# Altium footprint library IC.PcbLib: 99 footprints (part 3 of 7)
Each footprint in its own frame and in the unit in brackets; x right, y up, seen from the top. Pads: shape width x height; smd on the part's side, far side on the other; paste and mask are expansions set on the pad; w line width, h text height; cw(c..) or ccw(c..) is an arc to the next point about the centre after c.
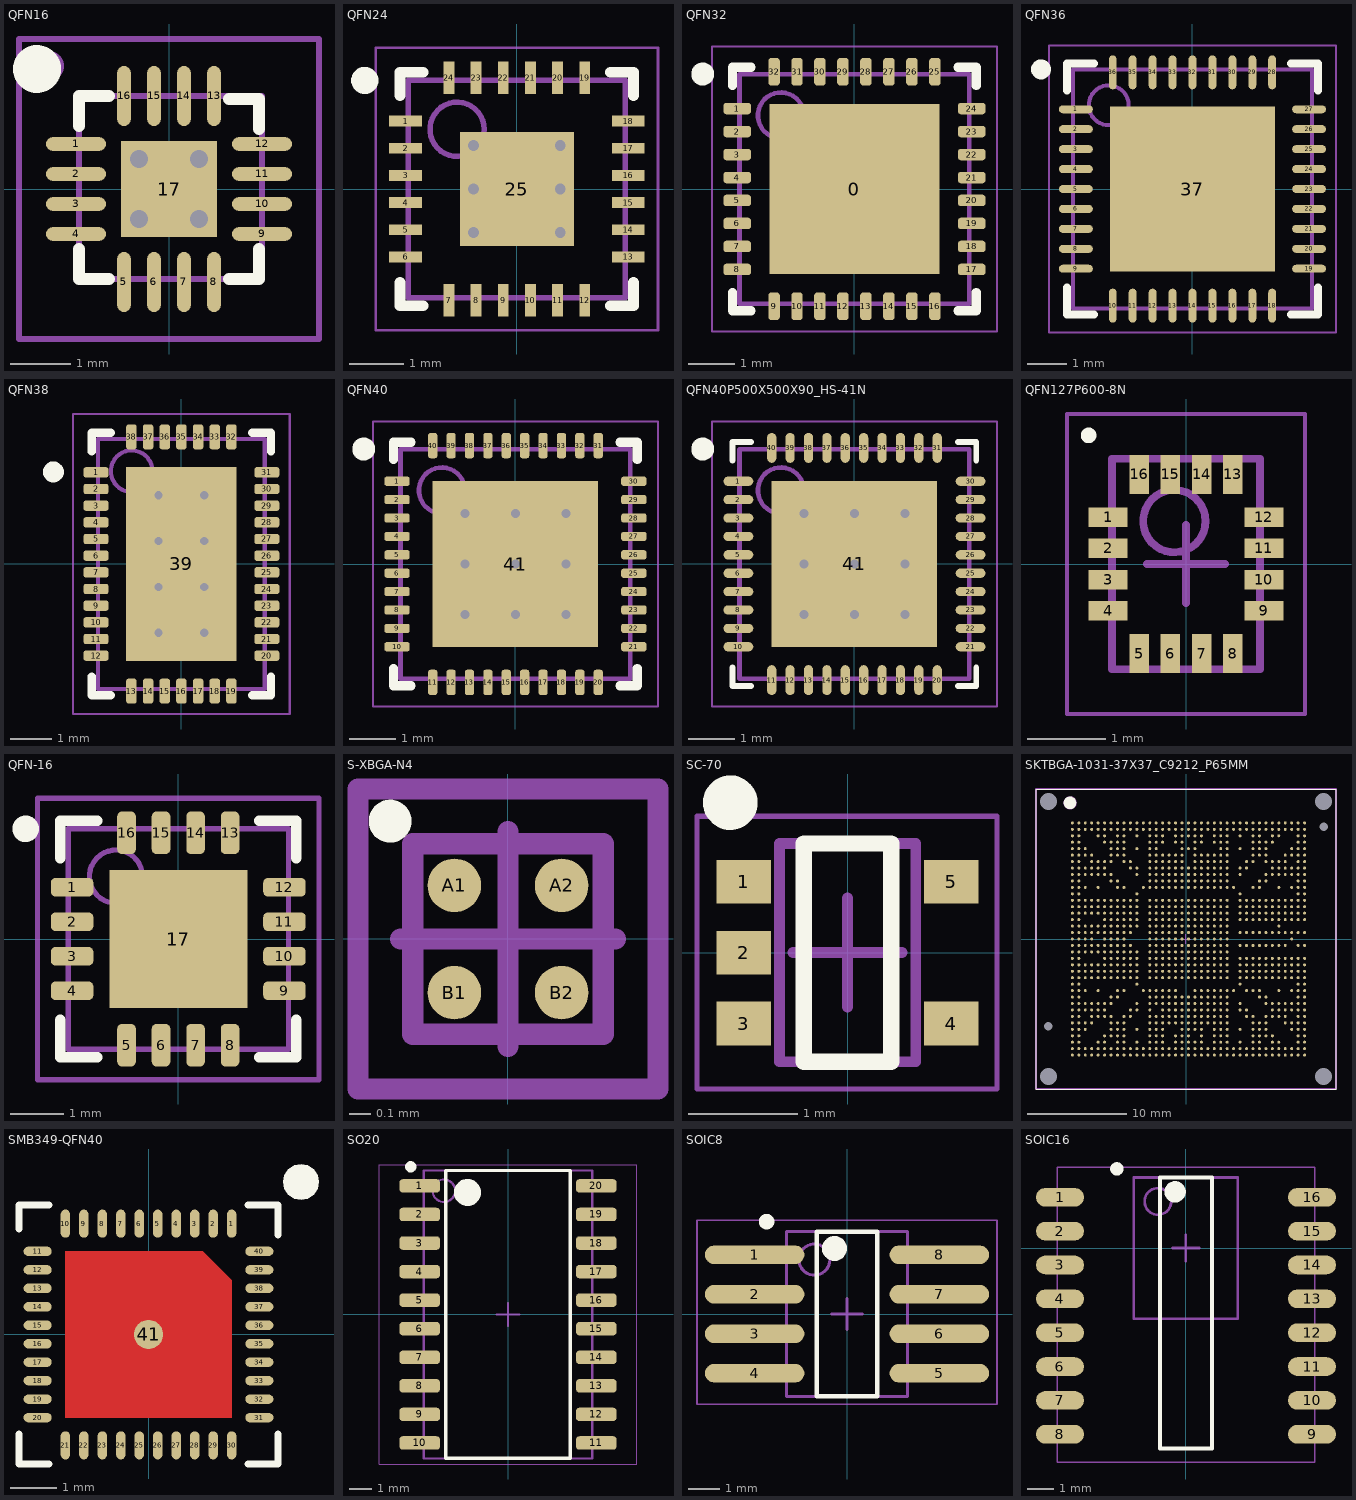
[diagram p2: the footprints below, top view; thin cyan lines are the x and y axes]

## QFN16 [mm] "QFN16"
height 1.2
pads (17):
  oval 1x0.23 smd: 1(-1.55,0.75) 2(-1.55,0.25) 3(-1.55,-0.25) 4(-1.55,-0.75) 9(1.55,-0.75) 10(1.55,-0.25) 11(1.55,0.25) 12(1.55,0.75)
  oval 0.23x1 smd: 5(-0.75,-1.55) 6(-0.25,-1.55) 7(0.25,-1.55) 8(0.75,-1.55) 13(0.75,1.55) 14(0.25,1.55) 15(-0.25,1.55) 16(-0.75,1.55)
  rect 1.6x1.6 smd paste-50 mask-50: 17(0,0)
via -0.5,-0.5 diameter 0.6 hole 0.3
via 0.5,-0.5 diameter 0.6 hole 0.3
via 0.5,0.5 diameter 0.6 hole 0.3
via -0.5,0.5 diameter 0.6 hole 0.3
Top Overlay:
  circle w0.4: c-2.2,2 r0.2
  lines w0.2: -1.5,-1 -1.5,-1.5 -1,-1.5 ; -1.5,1.05 -1.5,1.55 -1,1.55 ; 1,-1.5 1.5,-1.5 1.5,-1 ; 1,1.5 1.5,1.5 1.5,1
Top Paste:
  region: 0.8,-0.3 0.8,0.3 -0.8,0.3 -0.8,-0.3
  rectangle: -0.3,-0.8 0.3,0.8
Top Solder:
  region: 0.8,-0.3 0.8,0.3 -0.8,0.3 -0.8,-0.3
  rectangle: -0.3,-0.8 0.3,0.8
Mechanical 13:
  circle w0.1: c-2,2.05 r0.2
  lines w0.1: -1.5,-1.5 1.55,-1.5 1.55,1.55 -1.5,1.55 -1.5,-1.5
  text ".Designator" at -1.676,2.5 h0.5
Mechanical 15:
  lines w0.1: -0.5,0 0.5,0 ; 0,-0.5 0,0.5 ; -2.5,-2.5 2.5,-2.5 2.5,2.5 -2.5,2.5 -2.5,-2.5
3D body: height -0.42, standoff -1.32, extent -1.521,-1.525 1.521,1.517

## QFN24 [mm]
height 1
pads (25):
  rect 0.6x0.2 smd: 1(-2.05,1.25) 2(-2.05,0.75) 3(-2.05,0.25) 4(-2.05,-0.25) 5(-2.05,-0.75) 6(-2.05,-1.25) 13(2.05,-1.25) 14(2.05,-0.75) 15(2.05,-0.25) 16(2.05,0.25) 17(2.05,0.75) 18(2.05,1.25)
  rect 0.2x0.6 smd: 7(-1.25,-2.05) 8(-0.75,-2.05) 9(-0.25,-2.05) 10(0.25,-2.05) 11(0.75,-2.05) 12(1.25,-2.05) 19(1.25,2.05) 20(0.75,2.05) 21(0.25,2.05) 22(-0.25,2.05) 23(-0.75,2.05) 24(-1.25,2.05)
  rect 2.1x2.1 smd paste-100 mask-100: 25(0,0)
via 0.8,0 diameter 0.4 hole 0.2
via 0.8,-0.8 diameter 0.4 hole 0.2
via 0.8,0.8 diameter 0.4 hole 0.2
via -0.8,0.8 diameter 0.4 hole 0.2
via -0.8,-0.8 diameter 0.4 hole 0.2
via -0.8,0 diameter 0.4 hole 0.2
Top Overlay:
  circle w0.25: c-2.8,2 r0.125
  lines w0.2: -2.15,-1.725 -2.15,-2.15 -1.725,-2.15 ; -2.15,1.725 -2.15,2.15 -1.725,2.15 ; 1.725,-2.15 2.15,-2.15 2.15,-1.725 ; 1.725,2.15 2.15,2.15 2.15,1.725
Top Paste:
  rectangle: -0.61,-1.041 0.61,1.041
Top Solder:
  rectangle: -0.61,-1.041 0.61,1.041
Mechanical 13:
  circle w0.1: c-1.1,1.1 r0.5
  lines w0.1: -2,-2 2,-2 2,2 -2,2 -2,-2
  text ".Designator" at -1.914,2.684 h0.5
Mechanical 15:
  lines w0.05: -2.6,-2.6 2.6,-2.6 2.6,2.6 -2.6,2.6 -2.6,-2.6
  lines w0.1: -0.5,0 0.5,0 ; 0,-0.5 0,0.5
3D body: height 1, standoff 0.02, extent -2,-2 2,2

## QFN32 [mm]
height 0.55
pads (33):
  rect 3.7x3.7 smd: 0(0,0)
  rrect50% 0.6x0.25 smd mask+0.085: 1(-2.55,1.75) 2(-2.55,1.25) 3(-2.55,0.75) 4(-2.55,0.25) 5(-2.55,-0.25) 6(-2.55,-0.75) 7(-2.55,-1.25) 8(-2.55,-1.75) 17(2.55,-1.75) 18(2.55,-1.25) 19(2.55,-0.75) 20(2.55,-0.25) 21(2.55,0.25) 22(2.55,0.75) 23(2.55,1.25) 24(2.55,1.75)
  rrect50% 0.25x0.6 smd mask+0.085: 9(-1.75,-2.55) 10(-1.25,-2.55) 11(-0.75,-2.55) 12(-0.25,-2.55) 13(0.25,-2.55) 14(0.75,-2.55) 15(1.25,-2.55) 16(1.75,-2.55) 25(1.75,2.55) 26(1.25,2.55) 27(0.75,2.55) 28(0.25,2.55) 29(-0.25,2.55) 30(-0.75,2.55) 31(-1.25,2.55) 32(-1.75,2.55)
Top Overlay:
  circle w0.25: c-3.3,2.5 r0.125
  lines w0.2: -2.65,-2.25 -2.65,-2.65 -2.25,-2.65 ; -2.65,2.25 -2.65,2.65 -2.25,2.65 ; 2.25,-2.65 2.65,-2.65 2.65,-2.25 ; 2.25,2.65 2.65,2.65 2.65,2.25
Mechanical 13:
  circle w0.1: c-1.6,1.6 r0.5
  lines w0.1: -2.5,-2.5 2.5,-2.5 2.5,2.5 -2.5,2.5 -2.5,-2.5
Mechanical 15:
  lines w0.05: -3.1,-3.1 3.1,-3.1 3.1,3.1 -3.1,3.1 -3.1,-3.1
  lines w0.1: -0.5,0 0.5,0 ; 0,-0.5 0,0.5
3D body: height 0.55, standoff 0.02, extent -2.5,-2.5 2.5,2.5

## QFN36 [mm] "QFN, 36-Leads, Body 6,00x6,00mm, Pitch 0,50mm, Thermal Pad 4,14x4,14mm, IPC Medium Density"
height 0.9
pads (37):
  oval 0.85x0.2 smd: 1(-2.925,2) 2(-2.925,1.5) 3(-2.925,1) 4(-2.925,0.5) 5(-2.925,0) 6(-2.925,-0.5) 7(-2.925,-1) 8(-2.925,-1.5) 9(-2.925,-2) 19(2.925,-2) 20(2.925,-1.5) 21(2.925,-1) 22(2.925,-0.5) 23(2.925,0) 24(2.925,0.5) 25(2.925,1) 26(2.925,1.5) 27(2.925,2)
  oval 0.2x0.85 smd: 10(-2,-2.925) 11(-1.5,-2.925) 12(-1,-2.925) 13(-0.5,-2.925) 14(0,-2.925) 15(0.5,-2.925) 16(1,-2.925) 17(1.5,-2.925) 18(2,-2.925) 28(2,2.925) 29(1.5,2.925) 30(1,2.925) 31(0.5,2.925) 32(0,2.925) 33(-0.5,2.925) 34(-1,2.925) 35(-1.5,2.925) 36(-2,2.925)
  rect 4.14x4.14 smd: 37(0,0)
Top Overlay:
  circle w0.25: c-3.8,3 r0.125
  lines w0.2: -3.15,-2.475 -3.15,-3.15 -2.475,-3.15 ; -3.15,2.475 -3.15,3.15 -2.475,3.15 ; 2.475,-3.15 3.15,-3.15 3.15,-2.475 ; 2.475,3.15 3.15,3.15 3.15,2.475
Mechanical 13:
  circle w0.1: c-2.1,2.1 r0.5
  lines w0.1: -3,-3 -3,3 3,3 3,-3 -3,-3
  text ".Designator" at -2.219,3.751 h0.5
Mechanical 15:
  lines w0.05: -3.6,-3.6 -3.6,3.6 3.6,3.6 3.6,-3.6 -3.6,-3.6
  lines w0.1: -0.5,0 0.5,0 ; 0,-0.5 0,0.5
3D body: height 0.9, standoff 0.01, extent -3,-3 3,3

## QFN38 [mm]
height 0.75
pads (39):
  rrect50% 0.6x0.25 smd mask+0.02: 1(-2.05,2.2) 2(-2.05,1.8) 3(-2.05,1.4) 4(-2.05,1) 5(-2.05,0.6) 6(-2.05,0.2) 7(-2.05,-0.2) 8(-2.05,-0.6) 9(-2.05,-1) 10(-2.05,-1.4) 11(-2.05,-1.8) 12(-2.05,-2.2) 20(2.05,-2.2) 21(2.05,-1.8) 22(2.05,-1.4) 23(2.05,-1) 24(2.05,-0.6) 25(2.05,-0.2) 26(2.05,0.2) 27(2.05,0.6) 28(2.05,1) 29(2.05,1.4) 30(2.05,1.8) 31(2.05,2.2)
  rrect50% 0.25x0.6 smd mask+0.02: 13(-1.2,-3.05) 14(-0.8,-3.05) 15(-0.4,-3.05) 16(0,-3.05) 17(0.4,-3.05) 18(0.8,-3.05) 19(1.2,-3.05) 32(1.2,3.05) 33(0.8,3.05) 34(0.4,3.05) 35(0,3.05) 36(-0.4,3.05) 37(-0.8,3.05) 38(-1.2,3.05)
  rect 2.65x4.65 smd paste-10 mask-10: 39(0,0)
via 0.55,1.65 diameter 0.4 hole 0.2
via -0.55,1.65 diameter 0.4 hole 0.2
via -0.55,0.55 diameter 0.4 hole 0.2
via 0.55,0.55 diameter 0.4 hole 0.2
via 0.55,-0.55 diameter 0.4 hole 0.2
via 0.55,-1.65 diameter 0.4 hole 0.2
via -0.55,-0.55 diameter 0.4 hole 0.2
via -0.55,-1.65 diameter 0.4 hole 0.2
Top Overlay:
  circle w0.25: c-3.071,2.21 r0.125
  lines w0.2: -2.15,-2.7 -2.15,-3.15 -1.7,-3.15 ; -2.15,2.7 -2.15,3.15 -1.7,3.15 ; 1.7,-3.15 2.15,-3.15 2.15,-2.7 ; 1.7,3.15 2.15,3.15 2.15,2.7
Top Paste:
  rectangle: 0.8,-2.3 1.3,2.3
  rectangle: -0.3,-2.3 0.3,2.3
  rectangle: -1.3,-2.3 -0.8,2.3
Top Solder:
  rectangle: -1.3,-2.3 -0.8,2.3
  rectangle: -0.3,-2.3 0.3,2.3
  rectangle: 0.8,-2.3 1.3,2.3
Mechanical 13:
  circle w0.1: c-1.194,2.227 r0.5
  lines w0.1: -2,-3 -2,3 2,3 2,-3 -2,-3
Mechanical 15:
  lines w0.05: -2.6,-3.6 -2.6,3.6 2.6,3.6 2.6,-3.6 -2.6,-3.6
  lines w0.1: -0.5,0 0.5,0 ; 0,-0.5 0,0.5
3D body: height 0.75, standoff 0.05, extent -2,-3 2,3

## QFN40 [mm]
height 0.85
pads (41):
  rrect50% 0.55x0.2 smd mask+0.06: 1(-2.575,1.8) 2(-2.575,1.4) 3(-2.575,1) 4(-2.575,0.6) 5(-2.575,0.2) 6(-2.575,-0.2) 7(-2.575,-0.6) 8(-2.575,-1) 9(-2.575,-1.4) 10(-2.575,-1.8) 21(2.575,-1.8) 22(2.575,-1.4) 23(2.575,-1) 24(2.575,-0.6) 25(2.575,-0.2) 26(2.575,0.2) 27(2.575,0.6) 28(2.575,1) 29(2.575,1.4) 30(2.575,1.8)
  rrect50% 0.2x0.55 smd mask+0.06: 11(-1.8,-2.575) 12(-1.4,-2.575) 13(-1,-2.575) 14(-0.6,-2.575) 15(-0.2,-2.575) 16(0.2,-2.575) 17(0.6,-2.575) 18(1,-2.575) 19(1.4,-2.575) 20(1.8,-2.575) 31(1.8,2.575) 32(1.4,2.575) 33(1,2.575) 34(0.6,2.575) 35(0.2,2.575) 36(-0.2,2.575) 37(-0.6,2.575) 38(-1,2.575) 39(-1.4,2.575) 40(-1.8,2.575)
  rect 3.6x3.6 smd paste-10 mask-10: 41(0,0)
via 1.1,1.1 diameter 0.4 hole 0.2
via 0,1.1 diameter 0.4 hole 0.2
via -1.1,1.1 diameter 0.4 hole 0.2
via -1.1,0 diameter 0.4 hole 0.2
via 0,0 diameter 0.4 hole 0.2
via 1.1,-1.1 diameter 0.4 hole 0.2
via 0,-1.1 diameter 0.4 hole 0.2
via -1.1,-1.1 diameter 0.4 hole 0.2
via 1.1,0 diameter 0.4 hole 0.2
Top Overlay:
  circle w0.25: c-3.3,2.5 r0.125
  lines w0.2: -2.65,-2.275 -2.65,-2.65 -2.275,-2.65 ; -2.65,2.275 -2.65,2.65 -2.275,2.65 ; 2.275,-2.65 2.65,-2.65 2.65,-2.275 ; 2.275,2.65 2.65,2.65 2.65,2.275
Top Solder:
  rectangle: 1.34,-1.8 1.8,1.8
  rectangle: 0.31,-1.8 0.77,1.8
  rectangle: -0.78,-1.8 -0.32,1.8
  rectangle: -1.8,-1.8 -1.34,1.8
Mechanical 13:
  circle w0.1: c-1.6,1.6 r0.5
  lines w0.1: -2.5,-2.5 2.5,-2.5 2.5,2.5 -2.5,2.5 -2.5,-2.5
Mechanical 15:
  lines w0.05: -3.1,-3.1 3.1,-3.1 3.1,3.1 -3.1,3.1 -3.1,-3.1
  lines w0.1: -0.5,0 0.5,0 ; 0,-0.5 0,0.5
3D body: height 0.85, standoff 0.02, extent -2.5,-2.5 2.5,2.5

## QFN40P500X500X90_HS-41N [mm] "QFN, 40-Leads, Body 5,00x5,00mm, Pitch 0,40mm, Thermal Pad 3,60x3,60mm, IPC Medium Density"
height 0.9
pads (41):
  oval 0.65x0.2 smd: 1(-2.525,1.8) 2(-2.525,1.4) 3(-2.525,1) 4(-2.525,0.6) 5(-2.525,0.2) 6(-2.525,-0.2) 7(-2.525,-0.6) 8(-2.525,-1) 9(-2.525,-1.4) 10(-2.525,-1.8) 21(2.525,-1.8) 22(2.525,-1.4) 23(2.525,-1) 24(2.525,-0.6) 25(2.525,-0.2) 26(2.525,0.2) 27(2.525,0.6) 28(2.525,1) 29(2.525,1.4) 30(2.525,1.8)
  oval 0.2x0.65 smd: 11(-1.8,-2.525) 12(-1.4,-2.525) 13(-1,-2.525) 14(-0.6,-2.525) 15(-0.2,-2.525) 16(0.2,-2.525) 17(0.6,-2.525) 18(1,-2.525) 19(1.4,-2.525) 20(1.8,-2.525) 31(1.8,2.525) 32(1.4,2.525) 33(1,2.525) 34(0.6,2.525) 35(0.2,2.525) 36(-0.2,2.525) 37(-0.6,2.525) 38(-1,2.525) 39(-1.4,2.525) 40(-1.8,2.525)
  rect 3.6x3.6 smd: 41(0,0)
via -1.1,1.1 diameter 0.5 hole 0.2
via 0,1.1 diameter 0.5 hole 0.2
via 1.1,1.1 diameter 0.5 hole 0.2
via -1.1,0 diameter 0.5 hole 0.2
via 0,0 diameter 0.5 hole 0.2
via 1.1,0 diameter 0.5 hole 0.2
via -1.1,-1.1 diameter 0.5 hole 0.2
via 0,-1.1 diameter 0.5 hole 0.2
via 1.1,-1.1 diameter 0.5 hole 0.2
Top Overlay:
  circle w0.25: c-3.3,2.5 r0.125
  lines w0.127: -2.65,-2.25 -2.65,-2.65 -2.25,-2.65 ; -2.65,2.25 -2.65,2.65 -2.25,2.65 ; 2.25,-2.65 2.65,-2.65 2.65,-2.25 ; 2.25,2.65 2.65,2.65 2.65,2.25
Mechanical 13:
  circle w0.1: c-1.6,1.6 r0.5
  lines w0.1: -2.5,-2.5 -2.5,2.5 2.5,2.5 2.5,-2.5 -2.5,-2.5
  text ".Designator" at -1.965,3.319 h0.5
Mechanical 15:
  lines w0.05: -3.1,-3.1 -3.1,3.1 3.1,3.1 3.1,-3.1 -3.1,-3.1
  lines w0.1: -0.5,0 0.5,0 ; 0,-0.5 0,0.5
3D body: height 0.9, standoff 0.05, extent -2.5,-2.5 2.5,2.5

## QFN127P600-8N [mm]
height 0.5
pads (16):
  rect 0.5x0.25 smd mask+0.05: 1(-1,0.6) 2(-1,0.2) 3(-1,-0.2) 4(-1,-0.6) 9(1,-0.6) 10(1,-0.2) 11(1,0.2) 12(1,0.6)
  rect 0.25x0.5 smd mask+0.05: 5(-0.6,-1.15) 6(-0.2,-1.15) 7(0.2,-1.15) 8(0.6,-1.15) 13(0.6,1.15) 14(0.2,1.15) 15(-0.2,1.15) 16(-0.6,1.15)
Top Overlay:
  circle w0.1: c-1.25,1.65 r0.05
Mechanical 13:
  circle w0.1: c-0.15,0.55 r0.4
  lines w0.1: -0.95,-1.35 -0.95,1.35 0.95,1.35 0.95,-1.35 -0.95,-1.35
  text ".Designator" at -1.914,2.1 h0.5
Mechanical 15:
  lines w0.05: -1.525,-1.925 -1.525,1.925 1.525,1.925 1.525,-1.925 -1.525,-1.925
  lines w0.1: -0.5,0 0.5,0 ; 0,-0.5 0,0.5
3D body: height 0.5, standoff 0.02, extent -0.95,-1.35 0.95,1.35

## QFN-16 [mm] "SYNCHRONOUS BOOST CONVERTER  WITH 2A SWITCH"
height 1
pads (17):
  rrect50% 0.8x0.35 smd mask+0.09: 1(-2,0.975) 2(-2,0.325) 3(-2,-0.325) 4(-2,-0.975) 9(2,-0.975) 10(2,-0.325) 11(2,0.325) 12(2,0.975)
  rrect50% 0.35x0.8 smd mask+0.09: 5(-0.975,-2) 6(-0.325,-2) 7(0.325,-2) 8(0.975,-2) 13(0.975,2) 14(0.325,2) 15(-0.325,2) 16(-0.975,2)
  rect 2.6x2.6 smd: 17(0,0)
Top Overlay:
  circle w0.25: c-2.875,2.075 r0.125
  lines w0.2: -2.225,-1.525 -2.225,-2.225 -1.525,-2.225 ; -2.225,1.525 -2.225,2.225 -1.525,2.225 ; 1.525,-2.225 2.225,-2.225 2.225,-1.525 ; 1.525,2.225 2.225,2.225 2.225,1.525
Mechanical 13:
  circle w0.1: c-1.175,1.175 r0.5
  lines w0.1: -2.075,-2.075 2.075,-2.075 2.075,2.075 -2.075,2.075 -2.075,-2.075
  text ".Designator" at -2.092,2.811 h0.5
Mechanical 15:
  lines w0.1: -0.5,0 0.5,0 ; 0,-0.5 0,0.5 ; -2.65,-2.65 2.65,-2.65 2.65,2.65 -2.65,2.65 -2.65,-2.65
3D body: height 1, standoff 0.08, extent -2.075,-2.075 2.075,2.075

## S-XBGA-N4 [mm] "BGA, 4-Leads, Body 0.89x0.89mmx0.50mm, Pitch 0.50mm"
height 0.5
pads (4):
  round 0.25 smd: A1(-0.25,0.25) A2(0.25,0.25) B1(-0.25,-0.25) B2(0.25,-0.25)
Top Overlay:
  circle w0.1: c-0.55,0.55 r0.05
Mechanical 13:
  lines w0.1: -0.445,-0.445 -0.445,0.445 0.445,0.445 0.445,-0.445 -0.445,-0.445
Mechanical 15:
  lines w0.1: -0.5,0 0.5,0 ; 0,-0.5 0,0.5 ; -0.7,-0.7 -0.7,0.7 0.7,0.7 0.7,-0.7 -0.7,-0.7
3D body: height 0.5, standoff 0.2, extent -0.445,-0.445 0.445,0.445

## SC-70 [mm]
height 0.95
pads (5):
  rect 0.5x0.4 smd mask+0.05: 1(-0.95,0.65) 2(-0.95,0) 3(-0.95,-0.65) 4(0.95,-0.65) 5(0.95,0.65)
Top Overlay:
  circle w0.25: c-1.075,1.375 r0.125
  lines w0.15: -0.4,-1 -0.4,1 0.4,1 0.4,-1 -0.4,-1
Mechanical 13:
  lines w0.1: -0.625,-1 0.625,-1 0.625,1 -0.625,1 -0.625,-1
Mechanical 15:
  lines w0.05: -1.38,-1.25 1.37,-1.25 1.37,1.25 -1.38,1.25 -1.38,-1.25
  lines w0.1: -0.5,0 0.5,0 ; 0,-0.5 0,0.5
3D body: height 0.95, standoff 0.15, extent -0.625,-1 0.625,1

## SKTBGA-1031-37X37_C9212_P65MM [mil] "SKTBGA-1031-37X37_C9212_P65MM"
pads (1037):
  round 40 hole 68: " "(-545.8,-545.7) " "(-545.8,545.8) " "(545.7,-545.7) " "(545.7,545.8)
  round 20 hole 34: " "(-545.8,-345.7) " "(545.7,445.8)
  round 11.8 smd: A1(-450.8,460.6) A2(-425.2,460.6) A3(-399.6,460.6) A4(-374.1,460.6) A5(-348.5,460.6) A6(-322.9,460.6) A7(-297.3,460.6) A8(-271.7,460.6) A9(-246.1,460.6) A10(-220.5,460.6) A11(-194.9,460.6) A12(-169.3,460.6) A13(-143.7,460.6) A14(-118.2,460.6) A15(-92.6,460.6) A16(-67,460.6) A17(-41.4,460.6) A18(-15.8,460.6) A19(9.8,460.6) A20(35.4,460.6) A21(61,460.6) A22(86.6,460.6) A23(112.2,460.6) A24(137.8,460.6) A25(163.3,460.6) A26(188.9,460.6) A27(214.5,460.6) A28(240.1,460.6) A29(265.7,460.6) A30(291.3,460.6) A31(316.9,460.6) A32(342.5,460.6) A33(368.1,460.6) A34(393.7,460.6) A35(419.2,460.6) A36(444.8,460.6) A37(470.4,460.6) AA1(-450.8,-51.2) AA2(-425.2,-51.2) AA3(-399.6,-51.2) AA4(-374.1,-51.2) AA5(-348.5,-51.2) AA6(-322.9,-51.2) AA7(-297.3,-51.2) AA8(-271.7,-51.2) AA9(-246.1,-51.2) AA10(-220.5,-51.2) AA11(-194.9,-51.2) AA13(-143.7,-51.2) AA14(-118.2,-51.2) AA15(-92.6,-51.2) AA16(-67,-51.2) AA17(-41.4,-51.2) AA18(-15.8,-51.2) AA19(9.8,-51.2) AA20(35.4,-51.2) AA21(61,-51.2) AA22(86.6,-51.2) AA23(112.2,-51.2) AA24(137.8,-51.2) AA25(163.3,-51.2) AB1(-450.8,-76.8) AB2(-425.2,-76.8) AB6(-322.9,-76.8) AB7(-297.3,-76.8) AB8(-271.7,-76.8) AB9(-246.1,-76.8) AB10(-220.5,-76.8) AB11(-194.9,-76.8) AB13(-143.7,-76.8) AB14(-118.2,-76.8) AB15(-92.6,-76.8) AB16(-67,-76.8) AB17(-41.4,-76.8) AB18(-15.8,-76.8) AB19(9.8,-76.8) AB20(35.4,-76.8) AB21(61,-76.8) AB22(86.6,-76.8) AB23(112.2,-76.8) AB24(137.8,-76.8) AB25(163.3,-76.8) AB27(214.5,-76.8) AB28(240.1,-76.8) AB29(265.7,-76.8) AB30(291.3,-76.8) AB31(316.9,-76.8) AB32(342.5,-76.8) AB33(368.1,-76.8) AB34(393.7,-76.8) AB35(419.2,-76.8) AB36(444.8,-76.8) AB37(470.4,-76.8) AC1(-450.8,-102.4) AC2(-425.2,-102.4) AC3(-399.6,-102.4) AC4(-374.1,-102.4) AC5(-348.5,-102.4) AC6(-322.9,-102.4) AC7(-297.3,-102.4) AC8(-271.7,-102.4) AC9(-246.1,-102.4) AC10(-220.5,-102.4) AC11(-194.9,-102.4) AC13(-143.7,-102.4) AC14(-118.2,-102.4) AC15(-92.6,-102.4) AC16(-67,-102.4) AC17(-41.4,-102.4) AC18(-15.8,-102.4) AC19(9.8,-102.4) AC20(35.4,-102.4) AC21(61,-102.4) AC22(86.6,-102.4) AC23(112.2,-102.4) AC24(137.8,-102.4) AC25(163.3,-102.4) AC27(214.5,-102.4) AC28(240.1,-102.4) AC29(265.7,-102.4) AC30(291.3,-102.4) AC31(316.9,-102.4) AC32(342.5,-102.4) AC33(368.1,-102.4) AC34(393.7,-102.4) AC35(419.2,-102.4) AC36(444.8,-102.4) AC37(470.4,-102.4) AD1(-450.8,-128) AD2(-425.2,-128) AD3(-399.6,-128) AD4(-374.1,-128) AD5(-348.5,-128) AD6(-322.9,-128) AD7(-297.3,-128) AD8(-271.7,-128) AD9(-246.1,-128) AD10(-220.5,-128) AD11(-194.9,-128) AD13(-143.7,-128) AD14(-118.2,-128) AD15(-92.6,-128) AD16(-67,-128) AD17(-41.4,-128) AD18(-15.8,-128) AD19(9.8,-128) AD20(35.4,-128) AD21(61,-128) AD22(86.6,-128) AD23(112.2,-128) AD24(137.8,-128) AD25(163.3,-128) AD27(214.5,-128) AD28(240.1,-128) AD29(265.7,-128) AD30(291.3,-128) AD31(316.9,-128) AD32(342.5,-128) AD33(368.1,-128) AD34(393.7,-128) AD35(419.2,-128) AD36(444.8,-128) AD37(470.4,-128) AE1(-450.8,-153.5) AE2(-425.2,-153.5) AE3(-399.6,-153.5) AE4(-374.1,-153.5) AE5(-348.5,-153.5) AE6(-322.9,-153.5) AE7(-297.3,-153.5) AE8(-271.7,-153.5) AE9(-246.1,-153.5) AE10(-220.5,-153.5) AE11(-194.9,-153.5) AE13(-143.7,-153.5) AE14(-118.2,-153.5) AE15(-92.6,-153.5) AE16(-67,-153.5) AE17(-41.4,-153.5) AE18(-15.8,-153.5) AE19(9.8,-153.5) AE20(35.4,-153.5) AE21(61,-153.5) AE22(86.6,-153.5) AE23(112.2,-153.5) AE24(137.8,-153.5) AE25(163.3,-153.5) AE27(214.5,-153.5) AE28(240.1,-153.5) AE29(265.7,-153.5) AE30(291.3,-153.5) AE31(316.9,-153.5) AE32(342.5,-153.5) AE33(368.1,-153.5) AE34(393.7,-153.5) AE35(419.2,-153.5) AE36(444.8,-153.5) AE37(470.4,-153.5) AF1(-450.8,-179.1) AF2(-425.2,-179.1) AF11(-194.9,-179.1) AF27(214.5,-179.1) AF36(444.8,-179.1) AF37(470.4,-179.1) AG1(-450.8,-204.7) AG2(-425.2,-204.7) AG3(-399.6,-204.7) AG5(-348.5,-204.7) AG8(-271.7,-204.7) AG9(-246.1,-204.7) AG12(-169.3,-204.7) AG13(-143.7,-204.7) AG14(-118.2,-204.7) AG15(-92.6,-204.7) AG16(-67,-204.7) AG17(-41.4,-204.7) AG20(35.4,-204.7) AG21(61,-204.7) AG22(86.6,-204.7) AG23(112.2,-204.7) AG24(137.8,-204.7) AG25(163.3,-204.7) AG26(188.9,-204.7) AG28(240.1,-204.7) AG29(265.7,-204.7) AG30(291.3,-204.7) AG33(368.1,-204.7) AG35(419.2,-204.7) AG36(444.8,-204.7) AG37(470.4,-204.7) AH1(-450.8,-230.3) AH2(-425.2,-230.3) AH7(-297.3,-230.3) AH8(-271.7,-230.3) AH13(-143.7,-230.3) AH14(-118.2,-230.3) AH15(-92.6,-230.3) AH16(-67,-230.3) AH17(-41.4,-230.3) AH18(-15.8,-230.3) AH19(9.8,-230.3) AH20(35.4,-230.3) AH21(61,-230.3) AH22(86.6,-230.3) AH23(112.2,-230.3) AH24(137.8,-230.3) AH25(163.3,-230.3) AH30(291.3,-230.3) AH31(316.9,-230.3) AH36(444.8,-230.3) AH37(470.4,-230.3) AJ1(-450.8,-255.9) AJ2(-425.2,-255.9) AJ3(-399.6,-255.9) AJ4(-374.1,-255.9) AJ5(-348.5,-255.9) AJ6(-322.9,-255.9) AJ7(-297.3,-255.9) AJ11(-194.9,-255.9) AJ13(-143.7,-255.9) AJ14(-118.2,-255.9) AJ15(-92.6,-255.9) AJ16(-67,-255.9) AJ17(-41.4,-255.9) AJ18(-15.8,-255.9) AJ19(9.8,-255.9) AJ20(35.4,-255.9) AJ21(61,-255.9) AJ22(86.6,-255.9) AJ23(112.2,-255.9) AJ24(137.8,-255.9) AJ25(163.3,-255.9) AJ27(214.5,-255.9) AJ31(316.9,-255.9) AJ32(342.5,-255.9) AJ33(368.1,-255.9) AJ34(393.7,-255.9) AJ35(419.2,-255.9) AJ36(444.8,-255.9) AJ37(470.4,-255.9) AK1(-450.8,-281.5) AK2(-425.2,-281.5) AK3(-399.6,-281.5) AK4(-374.1,-281.5) AK5(-348.5,-281.5) AK6(-322.9,-281.5) AK10(-220.5,-281.5) AK11(-194.9,-281.5) AK13(-143.7,-281.5) AK15(-92.6,-281.5) AK16(-67,-281.5) AK17(-41.4,-281.5) AK18(-15.8,-281.5) AK19(9.8,-281.5) AK20(35.4,-281.5) AK21(61,-281.5) AK22(86.6,-281.5) AK23(112.2,-281.5) AK24(137.8,-281.5) AK25(163.3,-281.5) AK27(214.5,-281.5) AK28(240.1,-281.5) AK32(342.5,-281.5) AK33(368.1,-281.5) AK34(393.7,-281.5) AK35(419.2,-281.5) AK36(444.8,-281.5) AK37(470.4,-281.5) AL1(-450.8,-307.1) AL2(-425.2,-307.1) AL4(-374.1,-307.1) AL5(-348.5,-307.1) AL6(-322.9,-307.1) AL7(-297.3,-307.1) AL9(-246.1,-307.1) AL10(-220.5,-307.1) AL13(-143.7,-307.1) AL14(-118.2,-307.1) AL15(-92.6,-307.1) AL16(-67,-307.1) AL17(-41.4,-307.1) AL18(-15.8,-307.1) AL19(9.8,-307.1) AL20(35.4,-307.1) AL21(61,-307.1) AL22(86.6,-307.1) AL23(112.2,-307.1) AL24(137.8,-307.1) AL25(163.3,-307.1) AL28(240.1,-307.1) AL29(265.7,-307.1) AL31(316.9,-307.1) AL32(342.5,-307.1) AL33(368.1,-307.1) AL34(393.7,-307.1) AL36(444.8,-307.1) AL37(470.4,-307.1) AM1(-450.8,-332.7) AM2(-425.2,-332.7) AM3(-399.6,-332.7) AM4(-374.1,-332.7) AM7(-297.3,-332.7) AM8(-271.7,-332.7) AM9(-246.1,-332.7) AM13(-143.7,-332.7) AM14(-118.2,-332.7) AM15(-92.6,-332.7) AM16(-67,-332.7) AM17(-41.4,-332.7) AM18(-15.8,-332.7) AM19(9.8,-332.7) AM20(35.4,-332.7) AM21(61,-332.7) AM22(86.6,-332.7) AM23(112.2,-332.7) AM24(137.8,-332.7) AM25(163.3,-332.7) AM29(265.7,-332.7) AM30(291.3,-332.7) AM31(316.9,-332.7) AM34(393.7,-332.7) AM35(419.2,-332.7) AM36(444.8,-332.7) AM37(470.4,-332.7) AN1(-450.8,-358.3) AN2(-425.2,-358.3) AN3(-399.6,-358.3) AN7(-297.3,-358.3) AN8(-271.7,-358.3) AN9(-246.1,-358.3) AN11(-194.9,-358.3) AN13(-143.7,-358.3) AN14(-118.2,-358.3) AN15(-92.6,-358.3) AN18(-15.8,-358.3) AN19(9.8,-358.3) AN20(35.4,-358.3) AN21(61,-358.3) AN23(112.2,-358.3) AN24(137.8,-358.3) AN25(163.3,-358.3) AN27(214.5,-358.3) AN29(265.7,-358.3) AN30(291.3,-358.3) AN31(316.9,-358.3) AN35(419.2,-358.3) AN36(444.8,-358.3) AN37(470.4,-358.3) AP1(-450.8,-383.9) AP2(-425.2,-383.9) AP6(-322.9,-383.9) AP7(-297.3,-383.9) AP8(-271.7,-383.9) AP9(-246.1,-383.9) AP13(-143.7,-383.9) AP14(-118.2,-383.9) AP15(-92.6,-383.9) AP17(-41.4,-383.9) AP18(-15.8,-383.9) AP19(9.8,-383.9) AP21(61,-383.9) AP23(112.2,-383.9) AP24(137.8,-383.9) AP25(163.3,-383.9) AP29(265.7,-383.9) AP30(291.3,-383.9) AP31(316.9,-383.9) AP32(342.5,-383.9) AP36(444.8,-383.9) AP37(470.4,-383.9) AR1(-450.8,-409.4) AR2(-425.2,-409.4) AR5(-348.5,-409.4) AR6(-322.9,-409.4) AR8(-271.7,-409.4) AR9(-246.1,-409.4) AR11(-194.9,-409.4) AR13(-143.7,-409.4) AR14(-118.2,-409.4) AR15(-92.6,-409.4) AR17(-41.4,-409.4) AR18(-15.8,-409.4) AR19(9.8,-409.4) AR20(35.4,-409.4) AR21(61,-409.4) AR23(112.2,-409.4) AR24(137.8,-409.4) AR25(163.3,-409.4) AR27(214.5,-409.4) AR29(265.7,-409.4) AR30(291.3,-409.4) AR32(342.5,-409.4) AR33(368.1,-409.4) AR36(444.8,-409.4) AR37(470.4,-409.4) AT1(-450.8,-435) AT2(-425.2,-435) AT3(-399.6,-435) AT4(-374.1,-435) AT5(-348.5,-435) AT6(-322.9,-435) AT7(-297.3,-435) AT8(-271.7,-435) AT9(-246.1,-435) AT10(-220.5,-435) AT11(-194.9,-435) AT12(-169.3,-435) AT13(-143.7,-435) AT14(-118.2,-435) AT15(-92.6,-435) AT16(-67,-435) AT17(-41.4,-435) AT18(-15.8,-435) AT19(9.8,-435) AT20(35.4,-435) AT21(61,-435) AT22(86.6,-435) AT23(112.2,-435) AT24(137.8,-435) AT25(163.3,-435) AT26(188.9,-435) AT27(214.5,-435) AT28(240.1,-435) AT29(265.7,-435) AT30(291.3,-435) AT31(316.9,-435) AT32(342.5,-435) AT33(368.1,-435) AT34(393.7,-435) AT35(419.2,-435) AT36(444.8,-435) AT37(470.4,-435) AU1(-450.8,-460.6) AU2(-425.2,-460.6) AU3(-399.6,-460.6) AU4(-374.1,-460.6) AU5(-348.5,-460.6) AU6(-322.9,-460.6) AU7(-297.3,-460.6) AU8(-271.7,-460.6) AU9(-246.1,-460.6) AU10(-220.5,-460.6) AU11(-194.9,-460.6) AU12(-169.3,-460.6) AU13(-143.7,-460.6) AU14(-118.2,-460.6) AU15(-92.6,-460.6) AU16(-67,-460.6) AU17(-41.4,-460.6) AU18(-15.8,-460.6) AU19(9.8,-460.6) AU20(35.4,-460.6) AU21(61,-460.6) AU22(86.6,-460.6) AU23(112.2,-460.6) AU24(137.8,-460.6) AU25(163.3,-460.6) AU26(188.9,-460.6) AU27(214.5,-460.6) AU28(240.1,-460.6) AU29(265.7,-460.6) AU30(291.3,-460.6) AU31(316.9,-460.6) AU32(342.5,-460.6) AU33(368.1,-460.6) AU34(393.7,-460.6) AU35(419.2,-460.6) AU36(444.8,-460.6) AU37(470.4,-460.6) B1(-450.8,435) B2(-425.2,435) B3(-399.6,435) B4(-374.1,435) B5(-348.5,435) B6(-322.9,435) B7(-297.3,435) B8(-271.7,435) B9(-246.1,435) B10(-220.5,435) B11(-194.9,435) B12(-169.3,435) B13(-143.7,435) B14(-118.2,435) B15(-92.6,435) B16(-67,435) B17(-41.4,435) B18(-15.8,435) B19(9.8,435) B20(35.4,435) B21(61,435) B22(86.6,435) B23(112.2,435) B24(137.8,435) B25(163.3,435) B26(188.9,435) B27(214.5,435) B28(240.1,435) B29(265.7,435) B30(291.3,435) B31(316.9,435) B32(342.5,435) B33(368.1,435) B34(393.7,435) B35(419.2,435) B36(444.8,435) B37(470.4,435) C1(-450.8,409.4) C2(-425.2,409.4) C5(-348.5,409.4) C6(-322.9,409.4) C8(-271.7,409.4) C9(-246.1,409.4) C11(-194.9,409.4) C13(-143.7,409.4) C14(-118.2,409.4) C15(-92.6,409.4) C17(-41.4,409.4) C18(-15.8,409.4) C19(9.8,409.4) C20(35.4,409.4) C21(61,409.4) C23(112.2,409.4) C24(137.8,409.4) C25(163.3,409.4) C27(214.5,409.4) C29(265.7,409.4) C30(291.3,409.4) C32(342.5,409.4) C33(368.1,409.4) C36(444.8,409.4) C37(470.4,409.4) D1(-450.8,383.9) D2(-425.2,383.9) D6(-322.9,383.9) D7(-297.3,383.9) D8(-271.7,383.9) D9(-246.1,383.9) D13(-143.7,383.9) D14(-118.2,383.9) D15(-92.6,383.9) D17(-41.4,383.9) D18(-15.8,383.9) D20(35.4,383.9) D21(61,383.9) D23(112.2,383.9) D24(137.8,383.9) D25(163.3,383.9) D29(265.7,383.9) D30(291.3,383.9) D31(316.9,383.9) D32(342.5,383.9) D36(444.8,383.9) D37(470.4,383.9) E1(-450.8,358.3) E2(-425.2,358.3) E3(-399.6,358.3) E7(-297.3,358.3) E8(-271.7,358.3) E9(-246.1,358.3) E11(-194.9,358.3) E13(-143.7,358.3) E14(-118.2,358.3) E18(-15.8,358.3) E19(9.8,358.3) E20(35.4,358.3) E24(137.8,358.3) E25(163.3,358.3) E27(214.5,358.3) E29(265.7,358.3) E30(291.3,358.3) E31(316.9,358.3) E35(419.2,358.3) E36(444.8,358.3) E37(470.4,358.3) F1(-450.8,332.7) F2(-425.2,332.7) F3(-399.6,332.7) F4(-374.1,332.7) F7(-297.3,332.7) F8(-271.7,332.7) F9(-246.1,332.7) F13(-143.7,332.7) F14(-118.2,332.7) F15(-92.6,332.7) F16(-67,332.7) F17(-41.4,332.7) F18(-15.8,332.7) F20(35.4,332.7) F21(61,332.7) F22(86.6,332.7) F23(112.2,332.7) F24(137.8,332.7) F25(163.3,332.7) F29(265.7,332.7) F30(291.3,332.7) F31(316.9,332.7) F34(393.7,332.7) F35(419.2,332.7) F36(444.8,332.7) F37(470.4,332.7) G1(-450.8,307.1) G2(-425.2,307.1) G4(-374.1,307.1) G5(-348.5,307.1) G6(-322.9,307.1) G7(-297.3,307.1) G9(-246.1,307.1) G10(-220.5,307.1) G13(-143.7,307.1) G14(-118.2,307.1) G15(-92.6,307.1) G16(-67,307.1) G17(-41.4,307.1) G18(-15.8,307.1) G20(35.4,307.1) G21(61,307.1) G22(86.6,307.1) G23(112.2,307.1) G24(137.8,307.1) G25(163.3,307.1) G28(240.1,307.1) G29(265.7,307.1) G31(316.9,307.1) G32(342.5,307.1) G33(368.1,307.1) G34(393.7,307.1) G36(444.8,307.1) G37(470.4,307.1) H1(-450.8,281.5) H2(-425.2,281.5) H3(-399.6,281.5) H4(-374.1,281.5) H5(-348.5,281.5) H6(-322.9,281.5) H10(-220.5,281.5) H11(-194.9,281.5) H13(-143.7,281.5) H14(-118.2,281.5) H15(-92.6,281.5) H16(-67,281.5) H17(-41.4,281.5) H18(-15.8,281.5) H19(9.8,281.5) H20(35.4,281.5) H21(61,281.5) H22(86.6,281.5) H23(112.2,281.5) H24(137.8,281.5) H25(163.3,281.5) H27(214.5,281.5) H28(240.1,281.5) H32(342.5,281.5) H33(368.1,281.5) H34(393.7,281.5) H35(419.2,281.5) H36(444.8,281.5) H37(470.4,281.5) J1(-450.8,255.9) J2(-425.2,255.9) J3(-399.6,255.9) J4(-374.1,255.9) J5(-348.5,255.9) J6(-322.9,255.9) J7(-297.3,255.9) J11(-194.9,255.9) J13(-143.7,255.9) J14(-118.2,255.9) J15(-92.6,255.9) J16(-67,255.9) J17(-41.4,255.9) J18(-15.8,255.9) J19(9.8,255.9) J20(35.4,255.9) J21(61,255.9) J22(86.6,255.9) J23(112.2,255.9) J24(137.8,255.9) J25(163.3,255.9) J27(214.5,255.9) J31(316.9,255.9) J32(342.5,255.9) J33(368.1,255.9) J34(393.7,255.9) J35(419.2,255.9) J36(444.8,255.9) J37(470.4,255.9) K1(-450.8,230.3) K2(-425.2,230.3) K7(-297.3,230.3) K8(-271.7,230.3) K13(-143.7,230.3) K14(-118.2,230.3) K15(-92.6,230.3) K16(-67,230.3) K17(-41.4,230.3) K18(-15.8,230.3) K19(9.8,230.3) K20(35.4,230.3) K21(61,230.3) K22(86.6,230.3) K23(112.2,230.3) K24(137.8,230.3) K25(163.3,230.3) K30(291.3,230.3) K31(316.9,230.3) K36(444.8,230.3) K37(470.4,230.3) L1(-450.8,204.7) L2(-425.2,204.7) L3(-399.6,204.7) L5(-348.5,204.7) L8(-271.7,204.7) L9(-246.1,204.7) L12(-169.3,204.7) L13(-143.7,204.7) L14(-118.2,204.7) L15(-92.6,204.7) L16(-67,204.7) L17(-41.4,204.7) L18(-15.8,204.7) L19(9.8,204.7) L20(35.4,204.7) L21(61,204.7) L22(86.6,204.7) L23(112.2,204.7) L24(137.8,204.7) L25(163.3,204.7) L26(188.9,204.7) L29(265.7,204.7) L30(291.3,204.7) L33(368.1,204.7) L35(419.2,204.7) L36(444.8,204.7) L37(470.4,204.7) M1(-450.8,179.1) M2(-425.2,179.1) M11(-194.9,179.1) M27(214.5,179.1) M36(444.8,179.1) M37(470.4,179.1) N1(-450.8,153.5) N2(-425.2,153.5) N3(-399.6,153.5) N4(-374.1,153.5) N5(-348.5,153.5) N6(-322.9,153.5) N7(-297.3,153.5) N8(-271.7,153.5) N9(-246.1,153.5) N10(-220.5,153.5) N11(-194.9,153.5) N13(-143.7,153.5) N14(-118.2,153.5) N15(-92.6,153.5) N16(-67,153.5) N17(-41.4,153.5) N18(-15.8,153.5) N19(9.8,153.5) N20(35.4,153.5) N21(61,153.5) N22(86.6,153.5) N23(112.2,153.5) N24(137.8,153.5) N25(163.3,153.5) N27(214.5,153.5) N28(240.1,153.5) N29(265.7,153.5) N30(291.3,153.5) N31(316.9,153.5) N32(342.5,153.5) N33(368.1,153.5) N34(393.7,153.5) N35(419.2,153.5) N36(444.8,153.5) N37(470.4,153.5) P1(-450.8,128) P2(-425.2,128) P3(-399.6,128) P4(-374.1,128) P5(-348.5,128) P6(-322.9,128) P7(-297.3,128) P8(-271.7,128) P9(-246.1,128) P10(-220.5,128) P11(-194.9,128) P13(-143.7,128) P14(-118.2,128) P15(-92.6,128) P16(-67,128) P17(-41.4,128) P18(-15.8,128) P19(9.8,128) P20(35.4,128) P21(61,128) P22(86.6,128) P23(112.2,128) P24(137.8,128) P25(163.3,128) P27(214.5,128) P28(240.1,128) P29(265.7,128) P30(291.3,128) P31(316.9,128) P32(342.5,128) P33(368.1,128) P34(393.7,128) P35(419.2,128) P36(444.8,128) P37(470.4,128) R1(-450.8,102.4) R2(-425.2,102.4) R3(-399.6,102.4) R4(-374.1,102.4) R5(-348.5,102.4) R6(-322.9,102.4) R7(-297.3,102.4) R8(-271.7,102.4) R9(-246.1,102.4) R10(-220.5,102.4) R11(-194.9,102.4) R13(-143.7,102.4) R14(-118.2,102.4) R15(-92.6,102.4) R16(-67,102.4) R17(-41.4,102.4) R18(-15.8,102.4) R19(9.8,102.4) R20(35.4,102.4) R21(61,102.4) R22(86.6,102.4) R23(112.2,102.4) R24(137.8,102.4) R25(163.3,102.4) R27(214.5,102.4) R28(240.1,102.4) R29(265.7,102.4) R30(291.3,102.4) R31(316.9,102.4) R32(342.5,102.4) R33(368.1,102.4) R34(393.7,102.4) R35(419.2,102.4) R36(444.8,102.4) R37(470.4,102.4) T1(-450.8,76.8) T2(-425.2,76.8) T6(-322.9,76.8) T7(-297.3,76.8) T8(-271.7,76.8) T9(-246.1,76.8) T10(-220.5,76.8) T11(-194.9,76.8) T13(-143.7,76.8) T14(-118.2,76.8) T15(-92.6,76.8) T16(-67,76.8) T17(-41.4,76.8) T18(-15.8,76.8) T19(9.8,76.8) T20(35.4,76.8) T21(61,76.8) T22(86.6,76.8) T23(112.2,76.8) T24(137.8,76.8) T25(163.3,76.8) T27(214.5,76.8) T28(240.1,76.8) T29(265.7,76.8) T30(291.3,76.8) T31(316.9,76.8) T32(342.5,76.8) T33(368.1,76.8) T34(393.7,76.8) T35(419.2,76.8) T36(444.8,76.8) T37(470.4,76.8) U1(-450.8,51.2) U2(-425.2,51.2) U3(-399.6,51.2) U4(-374.1,51.2) U5(-348.5,51.2) U6(-322.9,51.2) U7(-297.3,51.2) U8(-271.7,51.2) U9(-246.1,51.2) U10(-220.5,51.2) U11(-194.9,51.2) U13(-143.7,51.2) U14(-118.2,51.2) U15(-92.6,51.2) U16(-67,51.2) U17(-41.4,51.2) U18(-15.8,51.2) U19(9.8,51.2) U20(35.4,51.2) U21(61,51.2) U22(86.6,51.2) U23(112.2,51.2) U24(137.8,51.2) U25(163.3,51.2) U33(368.1,51.2) V1(-450.8,25.6) V2(-425.2,25.6) V3(-399.6,25.6) V4(-374.1,25.6) V5(-348.5,25.6) V6(-322.9,25.6) V7(-297.3,25.6) V8(-271.7,25.6) V9(-246.1,25.6) V10(-220.5,25.6) V13(-143.7,25.6) V14(-118.2,25.6) V15(-92.6,25.6) V16(-67,25.6) V17(-41.4,25.6) V18(-15.8,25.6) V19(9.8,25.6) V20(35.4,25.6) V21(61,25.6) V22(86.6,25.6) V23(112.2,25.6) V24(137.8,25.6) V25(163.3,25.6) V27(214.5,25.6) V28(240.1,25.6) V29(265.7,25.6) V30(291.3,25.6) V31(316.9,25.6) V32(342.5,25.6) V33(368.1,25.6) V34(393.7,25.6) V35(419.2,25.6) V36(444.8,25.6) V37(470.4,25.6) W1(-450.8,0) W2(-425.2,0) W3(-399.6,0) W4(-374.1,0) W6(-322.9,0) W7(-297.3,0) W8(-271.7,0) W9(-246.1,0) W13(-143.7,0) W14(-118.2,0) W15(-92.6,0) W16(-67,0) W17(-41.4,0) W18(-15.8,0) W19(9.8,0) W20(35.4,0) W21(61,0) W22(86.6,0) W23(112.2,0) W24(137.8,0) W25(163.3,0) W35(419.2,0) Y1(-450.8,-25.6) Y2(-425.2,-25.6) Y3(-399.6,-25.6) Y4(-374.1,-25.6) Y5(-348.5,-25.6) Y6(-322.9,-25.6) Y7(-297.3,-25.6) Y8(-271.7,-25.6) Y9(-246.1,-25.6) Y10(-220.5,-25.6) Y13(-143.7,-25.6) Y14(-118.2,-25.6) Y15(-92.6,-25.6) Y16(-67,-25.6) Y17(-41.4,-25.6) Y18(-15.8,-25.6) Y19(9.8,-25.6) Y20(35.4,-25.6) Y21(61,-25.6) Y22(86.6,-25.6) Y23(112.2,-25.6) Y24(137.8,-25.6) Y25(163.3,-25.6) Y27(214.5,-25.6) Y28(240.1,-25.6) Y29(265.7,-25.6) Y30(291.3,-25.6) Y31(316.9,-25.6) Y32(342.5,-25.6) Y33(368.1,-25.6) Y34(393.7,-25.6) Y36(444.8,-25.6) Y37(470.4,-25.6)
Top Overlay:
  circle w10: c-460.2,540 r5
  circle w10: c-460.2,540 r10
  circle w10: c-460.2,540 r15
  circle w10: c-460.2,540 r20
  lines w1: -595,-595 -595,595 595,595 595,-595 -595,-595
Mechanical 13:
  circle w10: c-460,540 r21.21
  lines w7.87: -595,-595 -595,595 595,595 595,-595 -595,-595
  text ".Designator" at -102.37,631.68 h19.68
Mechanical 15:
  circle w10: c-460,540 r21.21
  lines w3.94: -19.74,-0.05 19.63,-0.05 ; -0.05,-19.74 -0.05,19.63
  lines w7.87: -595,-595 -595,595 595,595 595,-595 -595,-595
3D body: height 118.11, standoff 11.81, extent -595,-595 595,595

## SMB349-QFN40 [mil] "SMB349-QFN40"
pads (41):
  oval 8x24 smd: 1(70.87,94.49) 2(55.12,94.49) 3(39.37,94.49) 4(23.62,94.49) 5(7.87,94.49) 6(-7.87,94.49) 7(-23.62,94.49) 8(-39.37,94.49) 9(-55.12,94.49) 10(-70.87,94.49) 21(-70.87,-94.49) 22(-55.12,-94.49) 23(-39.37,-94.49) 24(-23.62,-94.49) 25(-7.87,-94.49) 26(7.87,-94.49) 27(23.62,-94.49) 28(39.37,-94.49) 29(55.12,-94.49) 30(70.87,-94.49)
  oval 24x8 smd: 11(-94.49,70.87) 12(-94.49,55.12) 13(-94.49,39.37) 14(-94.49,23.62) 15(-94.49,7.87) 16(-94.49,-7.87) 17(-94.49,-23.62) 18(-94.49,-39.37) 19(-94.49,-55.12) 20(-94.49,-70.87) 31(94.49,-70.87) 32(94.49,-55.12) 33(94.49,-39.37) 34(94.49,-23.62) 35(94.49,-7.87) 36(94.49,7.87) 37(94.49,23.62) 38(94.49,39.37) 39(94.49,55.12) 40(94.49,70.87)
  round 25 smd: 41(0,0)
Top Layer:
  region: -70.87,-70.87 70.87,-70.87 70.87,46.13 46.13,70.87 -70.87,70.87
Top Overlay:
  pour cut-out: 114.71,130 115.87,124.15 119.19,119.19 124.15,115.87 130,114.71 135.85,115.87 140.81,119.19 144.13,124.15 145.29,130 144.13,135.85 140.81,140.81 135.85,144.13 130,145.29 124.15,144.13 119.19,140.81 115.87,135.85
  lines w6: -110.39,-85 -110.39,-110.39 -85,-110.39 ; -110.39,90 -110.39,110.39 -85,110.39 ; 85,-110.39 110.39,-110.39 110.39,-85 ; 85,110.39 110.39,110.39 110.39,85
Top Paste:
  pour cut-out: -70.87,-70.87 70.87,-70.87 70.87,46.13 46.13,70.87 -70.87,70.87
Top Solder:
  pour cut-out: -70.87,-70.87 70.87,-70.87 70.87,46.13 46.13,70.87 -70.87,70.87
Mechanical 13:
  text ".Designator" at -66.37,120.69 h19.68

## SO20 [mm]
height 2.65
pads (20):
  rrect50% 1.8x0.6 smd mask+0.1: 1(-3.925,5.715) 2(-3.925,4.445) 3(-3.925,3.175) 4(-3.925,1.905) 5(-3.925,0.635) 6(-3.925,-0.635) 7(-3.925,-1.905) 8(-3.925,-3.175) 9(-3.925,-4.445) 10(-3.925,-5.715) 11(3.925,-5.715) 12(3.925,-4.445) 13(3.925,-3.175) 14(3.925,-1.905) 15(3.925,-0.635) 16(3.925,0.635) 17(3.925,1.905) 18(3.925,3.175) 19(3.925,4.445) 20(3.925,5.715)
Top Overlay:
  circle w0.25: c-4.325,6.565 r0.125
  circle w0.6: c-1.8,5.425 r0.3
  lines w0.15: -2.775,-6.4 -2.775,6.4 2.775,6.4 2.775,-6.4 -2.775,-6.4
Mechanical 13:
  circle w0.1: c-2.85,5.5 r0.5
  lines w0.1: -3.75,-6.4 -3.75,6.4 3.75,6.4 3.75,-6.4 -3.75,-6.4
Mechanical 15:
  lines w0.05: -5.725,-6.65 -5.725,6.65 5.725,6.65 5.725,-6.65 -5.725,-6.65
  lines w0.1: -0.5,0 0.5,0 ; 0,-0.5 0,0.5
3D body: height 2, standoff 0, extent -3.865,-6.455 3.935,6.445

## SOIC8 [mm] "SOIC, 8-Leads, Body 5,25x3,90mm, Pitch 1,27mm, IPC Medium Density"
height 1.55
pads (8):
  oval 3.2x0.6 smd: 1(-2.972,1.905) 2(-2.972,0.635) 3(-2.972,-0.635) 4(-2.972,-1.905) 5(2.972,-1.905) 6(2.972,-0.635) 7(2.972,0.635) 8(2.972,1.905)
Top Overlay:
  circle w0.25: c-2.589,2.972 r0.125
  circle w0.4: c-0.403,2.108 r0.2
  lines w0.15: -0.975,-2.65 -0.975,2.65 0.975,2.65 0.975,-2.65 -0.975,-2.65
Mechanical 13:
  circle w0.1: c-1.05,1.75 r0.5
  lines w0.1: -1.95,-2.65 -1.95,2.65 1.95,2.65 1.95,-2.65 -1.95,-2.65
  text ".Designator" at -1.889,3.116 h0.5
Mechanical 15:
  lines w0.05: -4.826,-2.9 -4.826,3.023 4.826,3.023 4.826,-2.9 -4.826,-2.9
  lines w0.1: -0.5,0 0.5,0 ; 0,-0.5 0,0.5
3D body: height 1.55, standoff 0.18, extent -1.95,-2.65 1.95,2.65

## SOIC16 [mm] "SOIC, 8-Leads, Body 5,25x3,90mm, Pitch 1,27mm, IPC Medium Density"
height 1.55
pads (16):
  oval 1.8x0.7 smd: 1(-4.722,1.905) 2(-4.722,0.635) 3(-4.722,-0.635) 4(-4.722,-1.905) 5(-4.722,-3.175) 6(-4.722,-4.445) 7(-4.722,-5.715) 8(-4.722,-6.985) 9(4.732,-6.985) 10(4.732,-5.715) 11(4.732,-4.445) 12(4.732,-3.175) 13(4.732,-1.905) 14(4.732,-0.635) 15(4.732,0.635) 16(4.732,1.905)
Top Overlay:
  circle w0.4: c-0.403,2.108 r0.2
  circle w0.25: c-2.589,2.972 r0.125
  lines w0.15: -0.975,-7.513 0.975,-7.513 0.975,2.65 -0.975,2.65 -0.975,-7.513
Mechanical 13:
  circle w0.1: c-1.05,1.75 r0.5
  lines w0.1: -1.95,-2.65 1.95,-2.65 1.95,2.65 -1.95,2.65 -1.95,-2.65
  text ".Designator" at -1.889,3.116 h0.5
Mechanical 15:
  lines w0.05: -4.826,-8.044 4.826,-8.044 4.826,3.023 -4.826,3.023 -4.826,-8.044
  lines w0.1: -0.5,0 0.5,0 ; 0,-0.5 0,0.5
3D body: height 3.5, standoff 0, extent -5.14,-7.635 5.16,2.565